# EAGLE library part MMPQ2222A (library Fairchild_By_element14_Batch_1)
NPN Multi-Chip General Purpose Amplifier
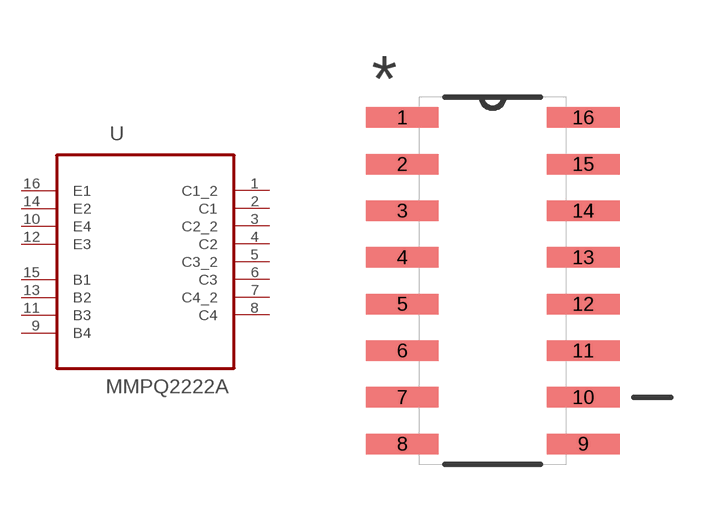
[diagram p339: symbol with the pads of SOIC127P600X175-16N; footprint SOIC127P600X175-16N]

Designator prefix U

## MMPQ2222A (MPN: MMPQ2222A; OC_FARNELL: 2101390; OC_NEWARK: 10P1562; PACKAGE: SOIC-16; SUPPLIER: FAIRCHILD SEMICONDUCTOR)  [SOIC127P600X175-16N]
1  C1_2  pas
2  C1  pas
3  C2_2  pas
4  C2  pas
5  C3_2  pas
6  C3  pas
7  C4_2  pas
8  C4  pas
9  B4  pas
10  E4  pas
11  B3  pas
12  E3  pas
13  B2  pas
14  E2  pas
15  B1  pas
16  E1  pas

## Footprint SOIC127P600X175-16N (pad centres in mm)
smd 1.981 x 0.559: 1 -2.464,4.445; 2 -2.464,3.175; 3 -2.464,1.905; 4 -2.464,0.635; 5 -2.464,-0.635; 6 -2.464,-1.905; 7 -2.464,-3.175; 8 -2.464,-4.445; 9 2.464,-4.445; 10 2.464,-3.175; 11 2.464,-1.905; 12 2.464,-0.635; 13 2.464,0.635; 14 2.464,1.905; 15 2.464,3.175; 16 2.464,4.445